# Altium integrated library Diodes.IntLib: 4 symbols
Pins are listed as number, name and electrical type; pins without a type are passive.

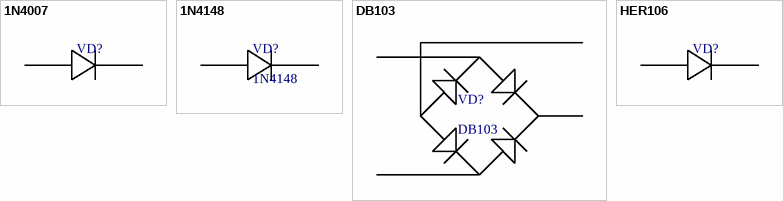
[diagram p0: symbols 1N4007 to HER106]

## 1N4007
designator VD?  (value not drawn)
footprint DO-41
pins: 1 а, 2 к

## 1N4148
designator VD?
footprint DO-35
footprint SOD-323F
pins: 1 а, 2 к

## DB103
designator VD?
footprint DB-1
pins: 1 ~, 2 ~, 3 +, 4 -

## HER106
designator VD?  (value not drawn)
footprint DO-41
pins: 1 а, 2 к